# Altium schematic symbol library 3 PIN.SchLib: 1 symbol
Pins are listed as number, name and electrical type; pins without a type are passive.

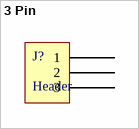
[diagram p0: symbol 3 Pin]

## 3 Pin
designator J?, comment Header
pins: 1, 2, 3